# EAGLE library part DS07E (library switch-dil)
DIL/CODE SWITCH
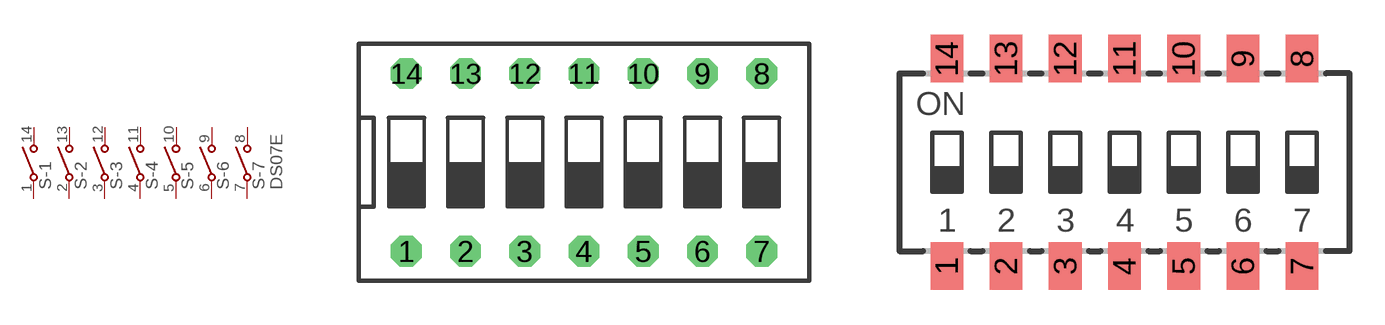
[diagram p13: symbol with the pads of DS-07; footprints DS-07, SDA07SK]

Designator prefix S; gates -1=S -2=S -3=S -4=S -5=S -6=S -7=S+V

## DS07E  [DS-07]
1  -1:1  pas
2  -2:1  pas
3  -3:1  pas
4  -4:1  pas
5  -5:1  pas
6  -6:1  pas
7  -7:1  pas
8  -7:2  pas
9  -6:2  pas
10  -5:2  pas
11  -4:2  pas
12  -3:2  pas
13  -2:2  pas
14  -1:2  pas

## DS07E-SDA07SK  [SDA07SK]
Pads as for DS-07

## DS07E-DA-07  [DA-07]
Pads as for DS-07

## Footprint DS-07 (pad centres in mm)
DIL/CODE SWITCH Mors distributor Buerklin, 17G560
drill 0.813 octagon: 1 -7.62,-3.81; 2 -5.08,-3.81; 3 -2.54,-3.81; 4 0,-3.81; 5 2.54,-3.81; 6 5.08,-3.81; 7 7.62,-3.81; 8 7.62,3.81; 9 5.08,3.81; 10 2.54,3.81; 11 0,3.81; 12 -2.54,3.81; 13 -5.08,3.81; 14 -7.62,3.81

## Footprint SDA07SK (pad centres in mm)
C&K SDA Series
smd 1.397 x 2.032: 1 -7.62,-4.445; 2 -5.08,-4.445; 3 -2.54,-4.445; 4 0,-4.445; 5 2.54,-4.445; 6 5.08,-4.445; 7 7.62,-4.445; 8 7.62,4.445; 9 5.08,4.445; 10 2.54,4.445; 11 0,4.445; 12 -2.54,4.445; 13 -5.08,4.445; 14 -7.62,4.445

## Footprint DA-07 (pad centres in mm)
DIL/CODE SWITCH Mors distributor Buerklin, 17G590
drill 0.813 octagon: 1 -7.62,-1.27; 2 -5.08,-1.27; 3 -2.54,-1.27; 4 0,-1.27; 5 2.54,-1.27; 6 5.08,-1.27; 7 7.62,-1.27; 8 7.62,1.27; 9 5.08,1.27; 10 2.54,1.27; 11 0,1.27; 12 -2.54,1.27; 13 -5.08,1.27; 14 -7.62,1.27